# Altium footprint library LCD.PcbLib: 1 footprints
Each footprint in its own frame and in the unit in brackets; x right, y up, seen from the top. Pads: shape width x height; smd on the part's side, far side on the other; paste and mask are expansions set on the pad; w line width, h text height; cw(c..) or ccw(c..) is an arc to the next point about the centre after c.
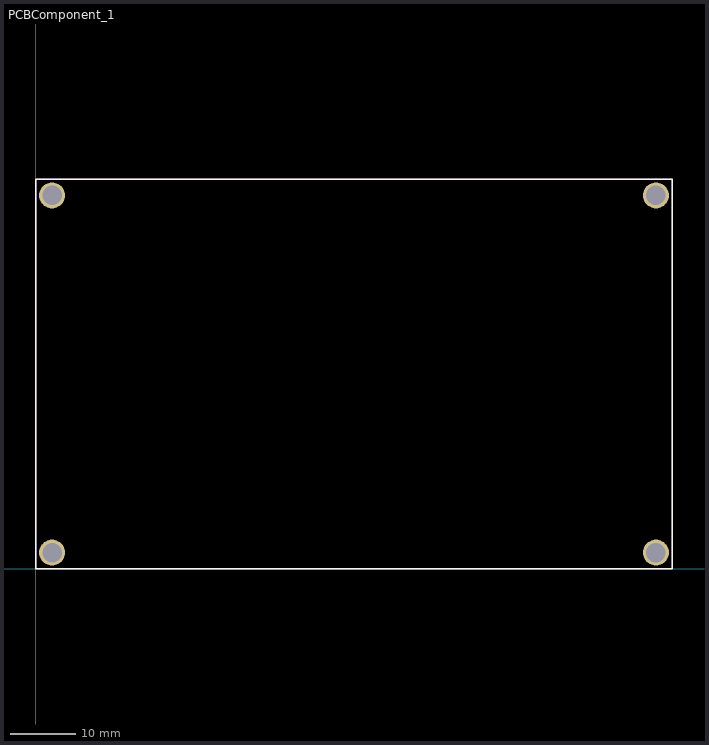
[diagram p0: the footprint, top view; thin cyan lines are the x and y axes]

## PCBComponent_1 [mm]
pads (4):
  round 4 hole 3: ""(2.5,2.5) ""(2.5,57.5) ""(95.5,2.5) ""(95.5,57.5)
Top Overlay:
  lines w0.254: 0,0 98,0 98,60 0,60 0,0
Mechanical 1:
  lines w0.254: 0,0 98,0 98,60 0,60 0,0